# EAGLE library part HEADER-14P-2R-DIP-2_54MM (library SamacSys_Parts)
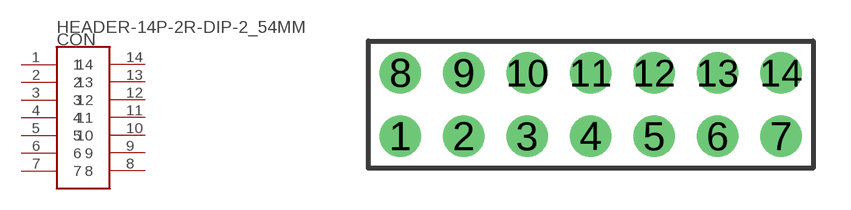
[diagram p28: symbol with the pads of HEADER-14P-2R-DIP-2_54MM; footprint HEADER-14P-2R-DIP-2_54MM]

Designator prefix CON

## HEADER-14P-2R-DIP-2_54MM  [HEADER-14P-2R-DIP-2_54MM]
1  1
2  2
3  3
4  4
5  5
6  6
7  7
8  8
9  9
10  10
11  11
12  12
13  13
14  14

## Footprint HEADER-14P-2R-DIP-2_54MM (pad centres in mm)
825433-5
drill 1.1 pad 1.65: 1 -7.62,-1.27; 2 -5.08,-1.27; 3 -2.54,-1.27; 4 0,-1.27; 5 2.54,-1.27; 6 5.08,-1.27; 7 7.62,-1.27; 8 -7.62,1.27; 9 -5.08,1.27; 10 -2.54,1.27; 11 0,1.27; 12 2.54,1.27; 13 5.08,1.27; 14 7.62,1.27